# Altium footprint library SO-16.PcbLib: 1 footprints
Each footprint in its own frame and in the unit in brackets; x right, y up, seen from the top. Pads: shape width x height; smd on the part's side, far side on the other; paste and mask are expansions set on the pad; w line width, h text height; cw(c..) or ccw(c..) is an arc to the next point about the centre after c.
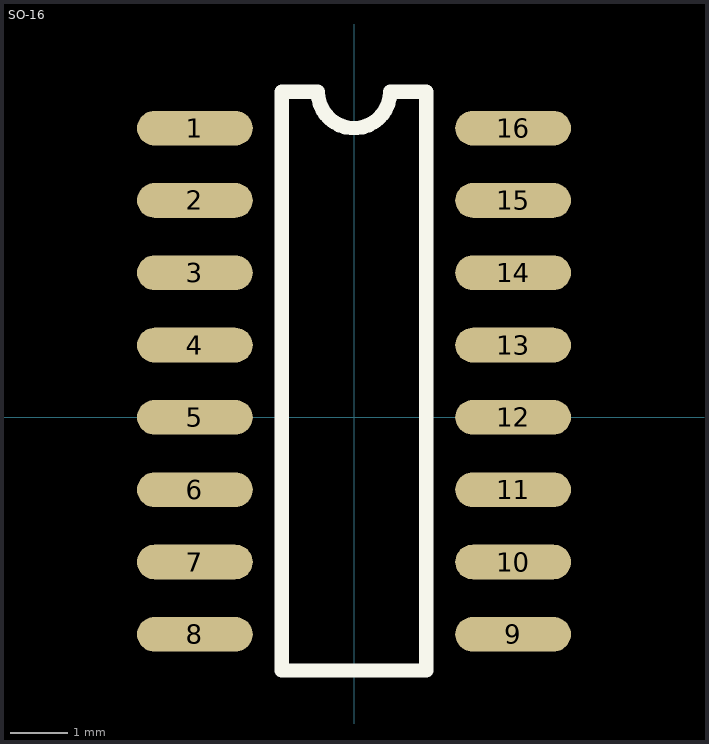
[diagram p0: the footprint, top view; thin cyan lines are the x and y axes]

## SO-16 [mil] "SO-16"
pads (16):
  oval 80x24 smd: 1(-110,200) 2(-110,150) 3(-110,100) 4(-110,50) 5(-110,0) 6(-110,-50) 7(-110,-100) 8(-110,-150) 9(110,-150) 10(110,-100) 11(110,-50) 12(110,0) 13(110,50) 14(110,100) 15(110,150) 16(110,200)
Top Overlay:
  lines w10: -50,-175 50,-175 50,225 25,225 cw(c0,225) -25,225 -50,225 -50,-175